# Altium schematic symbol library Passive.SchLib: 12 symbols (part 1 of 2)
Pins are listed as number, name and electrical type; pins without a type are passive.

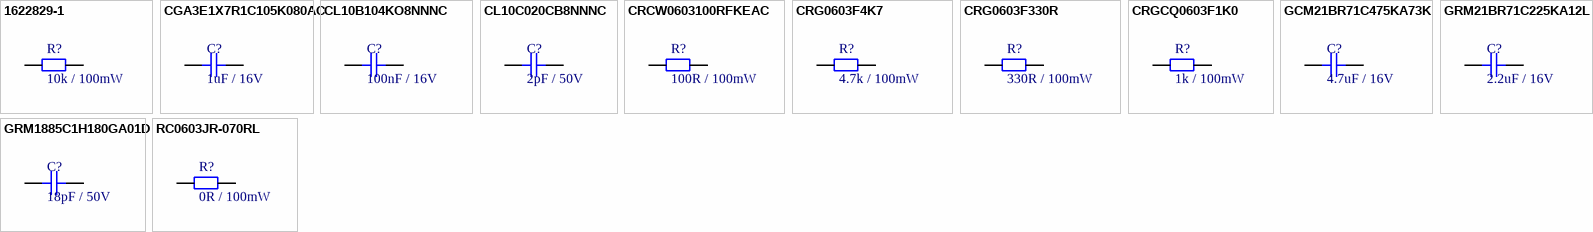
[diagram p0: symbols 1622829-1 to RC0603JR-070RL]

## 1622829-1
designator R?, comment 10k / 100mW
Res Thick Film 0603 10K Ohm 1% 0.1W(1/10W) ±100ppm/C Pad SMD T/R; Manufacturer: TE Connectivity; Manufacturer Part Number: 1622829-1; Manufacturer Lifecycle Status: ACTIVE; Number of Resistors: 1; Operating Supply Voltage: 50V; Value: 10kΩ; Temperature Coefficient: 100ppm/°C; Voltage Rating (DC): 75V; Supplier: Mouser; Supplier Part Number: 279-1622829-1; RoHS: Compliant; Category: Chip SMD Resistors; Stock: 133113; Pricing: 1=0.1, 10=0.016, 50=0.016, 100=0.013, 1000=0.007, 10000=0.004 (USD); Case/Package: 0603; Case Code (Imperial): 0603; Case Code (Metric): 1608; China RoHS: Non-Compliant; Composition: Thick Film; Depth: 800µm; Export Control Classification Number (ECCN) Code: EAR99; ELV: Compliant; Height: 450µm; Harmonized Tariff Schedule (HTS) Code: 8533.21.00.30; Introduction Date: 2003-09-18; Lead Free: Lead Free; Length: 1.6mm; Lifecycle Status: Production; Max Operating Temperature: 125°C; Max Power Dissipation: 100mW; Military Standard: Not; Min Operating Temperature: -55°C; Mounting Technology: Surface Mount; Number of Terminals: 2; Number of Terminations: 2; Packaging: TapeandReel; Power Dissipation: 100mW; Power Rating: 100mW; Radiation Hardening: No; REACH SVHC: Yes; Schedule B: 8533100070, 8533100070|8533100070, 8533100070|8533100070|8533100070, 8533100070|8533100070|8533100070|8533100070; Termination: Solder; Tolerance: 1%; Voltage Rating: 50V; Weight: 2.012816mg; Width: 800µm; Working Voltage: 50V; ComponentLink1URL: https://datasheet.octopart.com:443/CRG0603F10K-TE-Connectivity-datasheet-167977698.pdf?src-supplier=IHS; ComponentLink1Description: https://datasheet.octopart.com:443/CRG0603F10K-TE-Connectivity-datasheet-167977698.pdf?src-supplier=IHS; ComponentLink2URL: https://datasheet.octopart.com:443/CRG0603F10K-TE-Connectivity-datasheet-182172479.pdf?src-supplier=IHS; ComponentLink2Description: https://datasheet.octopart.com:443/CRG0603F10K-TE-Connectivity-datasheet-182172479.pdf?src-supplier=IHS; ComponentLink3URL: https://datasheet.octopart.com:443/1622829-1-TE-Connectivity-datasheet-128558484.pdf?src-supplier=Master+Electronics; ComponentLink3Description: https://datasheet.octopart.com:443/1622829-1-TE-Connectivity-datasheet-128558484.pdf?src-supplier=Master+Electronics; ComponentLink4URL: https://datasheet.octopart.com:443/1622829-1-TE-Connectivity---AMP-datasheet-189108518.pdf?src-supplier=Master+Electronics; ComponentLink4Description: https://datasheet.octopart.com:443/1622829-1-TE-Connectivity---AMP-datasheet-189108518.pdf?src-supplier=Master+Electronics; ComponentLink5URL: https://datasheet.octopart.com:443/1622829-1-TE-Connectivity-datasheet-44624597.pdf?src-supplier=Electro+Sonic; ComponentLink5Description: https://datasheet.octopart.com:443/1622829-1-TE-Connectivity-datasheet-44624597.pdf?src-supplier=Electro+Sonic; ComponentLink6URL: https://datasheet.octopart.com:443/1622829-1-TE-Connectivity---AMP-datasheet-11120284.pdf?src-supplier=TE+Connectivity; ComponentLink6Description: https://datasheet.octopart.com:443/1622829-1-TE-Connectivity---AMP-datasheet-11120284.pdf?src-supplier=TE+Connectivity; ComponentLink7URL: https://datasheet.octopart.com:443/1622829-1-TE-Connectivity---AMP-datasheet-11120141.pdf?src-supplier=TE+Connectivity; ComponentLink7Description: https://datasheet.octopart.com:443/1622829-1-TE-Connectivity---AMP-datasheet-11120141.pdf?src-supplier=TE+Connectivity; ComponentLink8URL: https://datasheet.octopart.com:443/1622829-1-TE-Connectivity-datasheet-14513465.pdf?src-supplier=TE+Connectivity; ComponentLink8Description: https://datasheet.octopart.com:443/1622829-1-TE-Connectivity-datasheet-14513465.pdf?src-supplier=TE+Connectivity; ComponentLink9URL: https://datasheet.octopart.com:443/CRG0603F10K-TE-Connectivity---Neohm-datasheet-193183284.pdf?src-supplier=JRH+Electronics; ComponentLink9Description: https://datasheet.octopart.com:443/CRG0603F10K-TE-Connectivity---Neohm-datasheet-193183284.pdf?src-supplier=JRH+Electronics; ComponentLink10URL: https://datasheet.octopart.com:443/1622829-1-TE-Connectivity---AMP-datasheet-189108484.pdf?src-supplier=JRH+Electronics; ComponentLink10Description: https://datasheet.octopart.com:443/1622829-1-TE-Connectivity---AMP-datasheet-189108484.pdf?src-supplier=JRH+Electronics; ComponentLink11URL: https://datasheet.octopart.com:443/CRG0603F10K-TE-Connectivity-datasheet-111046813.pdf?src-supplier=RS+(Formerly+Allied+Electronics); ComponentLink11Description: https://datasheet.octopart.com:443/CRG0603F10K-TE-Connectivity-datasheet-111046813.pdf?src-supplier=RS+(Formerly+Allied+Electronics); ComponentLink12URL: https://datasheet.octopart.com:443/CRG0603F10K-TE-Connectivity-datasheet-20739855.pdf?src-supplier=RS+(Formerly+Allied+Electronics); ComponentLink12Description: https://datasheet.octopart.com:443/CRG0603F10K-TE-Connectivity-datasheet-20739855.pdf?src-supplier=RS+(Formerly+Allied+Electronics); ComponentLink13URL: https://datasheet.octopart.com:443/CRG0603F10K-Tyco-Electronics-datasheet-9696495.pdf?src-supplier=RS+(Formerly+Allied+Electronics); ComponentLink13Description: https://datasheet.octopart.com:443/CRG0603F10K-Tyco-Electronics-datasheet-9696495.pdf?src-supplier=RS+(Formerly+Allied+Electronics); ComponentLink14URL: http://sigma.octopart.com:80/14513464/rohs_certificate/Tyco-Electronics-CRG0603F10K.pdf?src-supplier=Compliance+Statements; ComponentLink14Description: http://sigma.octopart.com:80/14513464/rohs_certificate/Tyco-Electronics-CRG0603F10K.pdf?src-supplier=Compliance+Statements; ComponentLink15URL: http://sigma.octopart.com:80/38872672/materials_sheet/TE-Connectivity-CRG0603F10K.pdf?src-supplier=Compliance+Statements; ComponentLink15Description: http://sigma.octopart.com:80/38872672/materials_sheet/TE-Connectivity-CRG0603F10K.pdf?src-supplier=Compliance+Statements; ComponentLink16URL: http://sigma.octopart.com:80/78339091/materials_sheet/TE-Connectivity-CRG0603F10K.pdf?src-supplier=Compliance+Statements; ComponentLink16Description: http://sigma.octopart.com:80/78339091/materials_sheet/TE-Connectivity-CRG0603F10K.pdf?src-supplier=Compliance+Statements
footprint R0603M (Resistor, Chip; 1.60 mm L X 0.775 mm W X 0.55 mm H body)
pins: 1, 2

## CGA3E1X7R1C105K080AC
designator C?, comment 1uF / 16V
16V 1uF X7R 卤10% 0603 Multilayer Ceramic Capacitors MLCC - SMD/SMT ROHS; Manufacturer: TDK; Manufacturer Part Number: CGA3E1X7R1C105K080AC; Manufacturer Lifecycle Status: PRODUCTION; Value: 1µF; Tolerance: 10%; Supplier: Mouser; Supplier Part Number: 810-CGA3E1X7R1C105AC; RoHS: Compliant; Category: Ceramic Capacitors; Stock: 273190; Pricing: 1=0.11, 10=0.04, 50=0.04, 100=0.035, 1000=0.023, 10000=0.015 (USD); Case/Package: 0603; Case Code (Imperial): 0603; Case Code (Metric): 1608; China RoHS: Compliant; Country of Origin: Japan; Dielectric: X7R; Dielectric Material: Ceramic; Export Control Classification Number (ECCN) Code: EAR99; Height: 800µm; Harmonized Tariff Schedule (HTS) Code: 8532.24.00.20; Introduction Date: 2012-12-22; Lead Free: Lead Free; Length: 1.6mm; Lifecycle Status: Production; Material: Ceramic; Max Length: 1.7mm; Max Operating Temperature: 125°C; Max Width: 900µm; Min Length: 1.5mm; Min Operating Temperature: -55°C; Min Width: 700µm; Mounting Technology: Surface Mount; Number of Terminals: 2; Ratings: AEC-Q200; REACH SVHC: Yes; Schedule B: 8532240020, 8532240020|8532240020, 8532240020|8532240020|8532240020, 8532240020|8532240020|8532240020|8532240020; Termination: SMD/SMT; Thickness: 889µm; Voltage Rating: 16V; Voltage Rating (DC): 16V; Weight: 2.012816mg; Width: 800µm; ComponentLink1URL: https://datasheet.octopart.com:443/CGA3E1X7R1C105K080AC-TDK-datasheet-165583812.pdf?src-supplier=IHS; ComponentLink1Description: https://datasheet.octopart.com:443/CGA3E1X7R1C105K080AC-TDK-datasheet-165583812.pdf?src-supplier=IHS; ComponentLink2URL: https://datasheet.octopart.com:443/CGA3E1X7R1C105K080AC-TDK-datasheet-138890726.pdf?src-supplier=Upverter; ComponentLink2Description: https://datasheet.octopart.com:443/CGA3E1X7R1C105K080AC-TDK-datasheet-138890726.pdf?src-supplier=Upverter; ComponentLink3URL: https://datasheet.octopart.com:443/CGA3E1X7R1C105K080AC-TDK-datasheet-151546526.pdf?src-supplier=ODG+(Origin+Data+Global); ComponentLink3Description: https://datasheet.octopart.com:443/CGA3E1X7R1C105K080AC-TDK-datasheet-151546526.pdf?src-supplier=ODG+(Origin+Data+Global); ComponentLink4URL: https://datasheet.octopart.com:443/CGA3E1X7R1C105K080AC-TDK-datasheet-43366117.pdf?src-supplier=Newark; ComponentLink4Description: https://datasheet.octopart.com:443/CGA3E1X7R1C105K080AC-TDK-datasheet-43366117.pdf?src-supplier=Newark; ComponentLink5URL: https://datasheet.octopart.com:443/CGA3E1X7R1C105K080AC-TDK-datasheet-82475251.pdf?src-supplier=Newark; ComponentLink5Description: https://datasheet.octopart.com:443/CGA3E1X7R1C105K080AC-TDK-datasheet-82475251.pdf?src-supplier=Newark; ComponentLink6URL: https://datasheet.octopart.com:443/CGA3E1X7R1C105K080AC-TDK-datasheet-164882302.pdf?src-supplier=Burklin+Elektronik; ComponentLink6Description: https://datasheet.octopart.com:443/CGA3E1X7R1C105K080AC-TDK-datasheet-164882302.pdf?src-supplier=Burklin+Elektronik; ComponentLink7URL: https://datasheet.octopart.com:443/CGA3E1X7R1C105K080AC-TDK-datasheet-140571036.pdf?src-supplier=Arrow.cn; ComponentLink7Description: https://datasheet.octopart.com:443/CGA3E1X7R1C105K080AC-TDK-datasheet-140571036.pdf?src-supplier=Arrow.cn
footprint C0603M (Capacitor, Chip; 1.60 mm L X 0.80 mm W X 0.90 mm H body)
pins: 1, 2

## CL10B104KO8NNNC
designator C?, comment 100nF / 16V
16V 100nF X7R ±10% 0603 Multilayer Ceramic Capacitors MLCC - SMD/SMT ROHS; Manufacturer: Samsung Electro-Mechanics; Manufacturer Part Number: CL10B104KO8NNNC; Supplier: LCSC; Supplier Part Number: C66501; RoHS: Compliant; Category: Ceramic Capacitors; Stock: 206300; Pricing: 100=0.0043, 1000=0.0034, 4000=0.0027, 8000=0.0024, 48000=0.0022 (USD); Value: 100nF; Case/Package: 0603; Case Code (Imperial): 0603; Case Code (Metric): 1608; China RoHS: Compliant; Contact Plating: Tin; Country of Origin: Mainland China, Philippines, South Korea; Depth: 800µm; Dielectric: X7R; Dielectric Material: Ceramic; Export Control Classification Number (ECCN) Code: EAR99; Height: 800µm; Harmonized Tariff Schedule (HTS) Code: 8532.24.00.20; Introduction Date: 2003-12-08; Lead Free: Lead Free; Length: 1.6mm; Lifecycle Status: Production; Material: Ceramic; Max Operating Temperature: 125°C; Min Operating Temperature: -55°C; Mounting Technology: Surface Mount; Number of Terminals: 2; Radiation Hardening: No; REACH SVHC: Yes; Schedule B: 8532240020, 8532240020|8532240020, 8532240020|8532240020|8532240020, 8532240020|8532240020|8532240020|8532240020; Thickness: 889µm; Tolerance: 10%; Voltage: 16V; Voltage Rating: 16V; Voltage Rating (DC): 16V; Width: 800µm; ComponentLink1URL: https://datasheet.octopart.com:443/CL10B104KO8NNNC-Samsung-Electro-Mechanics-datasheet-136482305.pdf?src-supplier=IHS; ComponentLink1Description: https://datasheet.octopart.com:443/CL10B104KO8NNNC-Samsung-Electro-Mechanics-datasheet-136482305.pdf?src-supplier=IHS; ComponentLink2URL: https://datasheet.octopart.com/CL10B104KO8NNNC-Samsung-Electro-Mechanics-datasheet-8324245.pdf; ComponentLink2Description: https://datasheet.octopart.com/CL10B104KO8NNNC-Samsung-Electro-Mechanics-datasheet-8324245.pdf; ComponentLink3URL: https://datasheet.octopart.com/CL10B104KO8NNNC-Samsung-Electro-Mechanics-datasheet-97040617.pdf; ComponentLink3Description: https://datasheet.octopart.com/CL10B104KO8NNNC-Samsung-Electro-Mechanics-datasheet-97040617.pdf; ComponentLink4URL: https://datasheet.octopart.com:443/CL10B104KO8NNNC-Samsung-Electro-Mechanics-datasheet-116890973.pdf?src-supplier=Future+Electronics; ComponentLink4Description: https://datasheet.octopart.com:443/CL10B104KO8NNNC-Samsung-Electro-Mechanics-datasheet-116890973.pdf?src-supplier=Future+Electronics; ComponentLink5URL: https://datasheet.octopart.com:443/CL10B104KO8NNNC-Samsung-Electro-Mechanics-datasheet-81461844.pdf?src-supplier=Future+Electronics; ComponentLink5Description: https://datasheet.octopart.com:443/CL10B104KO8NNNC-Samsung-Electro-Mechanics-datasheet-81461844.pdf?src-supplier=Future+Electronics; ComponentLink6URL: https://datasheet.octopart.com:443/CL10B104KO8NNNC-Samsung-datasheet-42770384.pdf?src-supplier=Future+Electronics; ComponentLink6Description: https://datasheet.octopart.com:443/CL10B104KO8NNNC-Samsung-datasheet-42770384.pdf?src-supplier=Future+Electronics; ComponentLink7URL: https://datasheet.octopart.com:443/CL10B104KO8NNNC-Samsung-datasheet-26589157.pdf?src-supplier=Future+Electronics; ComponentLink7Description: https://datasheet.octopart.com:443/CL10B104KO8NNNC-Samsung-datasheet-26589157.pdf?src-supplier=Future+Electronics; ComponentLink8URL: https://datasheet.octopart.com:443/CL10B104KO8NNNC-Samsung-Electro-Mechanics-datasheet-149136789.pdf?src-supplier=Future+Electronics; ComponentLink8Description: https://datasheet.octopart.com:443/CL10B104KO8NNNC-Samsung-Electro-Mechanics-datasheet-149136789.pdf?src-supplier=Future+Electronics; ComponentLink9URL: https://datasheet.octopart.com:443/CL10B104KO8NNNC-Samsung-datasheet-8326407.pdf?src-supplier=TME; ComponentLink9Description: https://datasheet.octopart.com:443/CL10B104KO8NNNC-Samsung-datasheet-8326407.pdf?src-supplier=TME; ComponentLink10URL: https://datasheet.octopart.com:443/CL10B104KO8NNNC-Samsung-Electro-Mechanics-datasheet-11890603.pdf?src-supplier=Arrow+Electronics; ComponentLink10Description: https://datasheet.octopart.com:443/CL10B104KO8NNNC-Samsung-Electro-Mechanics-datasheet-11890603.pdf?src-supplier=Arrow+Electronics
footprint C0603M (Capacitor, Chip; 1.60 mm L X 0.80 mm W X 0.90 mm H body)
pins: 1, 2

## CL10C020CB8NNNC
designator C?, comment 2pF / 50V
Cap Ceramic 2pF 50V C0G 0.25pF Pad SMD 0603 125C T/R; Manufacturer: Samsung Electro-Mechanics; Manufacturer Part Number: CL10C020CB8NNNC; Temperature Coefficient: 30ppm/°C; Supplier: Mouser; Supplier Part Number: 187-CL10C020CB8NNNC; RoHS: Compliant; Category: Ceramic Capacitors; Stock: 74711; Pricing: 1=0.1, 10=0.024, 50=0.024, 100=0.021, 1000=0.013, 10000=0.008 (USD); Value: 2pF; Case/Package: 0603; Case Code (Imperial): 0603; Case Code (Metric): 1608; China RoHS: Compliant; Country of Origin: Mainland China, Philippines, South Korea; Depth: 800µm; Dielectric: C0G; Dielectric Material: Ceramic; Export Control Classification Number (ECCN) Code: EAR99; Height: 900µm; Harmonized Tariff Schedule (HTS) Code: 8532.24.00.20; Introduction Date: 2010-07-30; Length: 1.6mm; Lifecycle Status: Production; Material: Ceramic; Max Operating Temperature: 125°C; Min Operating Temperature: -55°C; Mounting Technology: Surface Mount; Number of Terminals: 2; Radiation Hardening: No; REACH SVHC: Yes; Schedule B: 8532240020, 8532240020|8532240020|8532240020|8532240020|8532240020; Thickness: 889µm; Voltage Rating: 50V; Voltage Rating (DC): 50V; Width: 800µm; ComponentLink1URL: https://datasheet.octopart.com:443/CL10C020CB8NNNC-Samsung-Electro-Mechanics-datasheet-136482375.pdf?src-supplier=IHS; ComponentLink1Description: https://datasheet.octopart.com:443/CL10C020CB8NNNC-Samsung-Electro-Mechanics-datasheet-136482375.pdf?src-supplier=IHS; ComponentLink2URL: https://datasheet.octopart.com:443/CL10C020CB8NNNC-Samsung-Electro-Mechanics-datasheet-149136886.pdf?src-supplier=Future+Electronics; ComponentLink2Description: https://datasheet.octopart.com:443/CL10C020CB8NNNC-Samsung-Electro-Mechanics-datasheet-149136886.pdf?src-supplier=Future+Electronics; ComponentLink3URL: https://datasheet.octopart.com:443/CL10C020CB8NNNC-Samsung-Electro-Mechanics-datasheet-110226315.pdf?src-supplier=Future+Electronics; ComponentLink3Description: https://datasheet.octopart.com:443/CL10C020CB8NNNC-Samsung-Electro-Mechanics-datasheet-110226315.pdf?src-supplier=Future+Electronics; ComponentLink4URL: https://datasheet.octopart.com:443/CL10C020CB8NNNC-Samsung-Electro-Mechanics-datasheet-81461944.pdf?src-supplier=Future+Electronics; ComponentLink4Description: https://datasheet.octopart.com:443/CL10C020CB8NNNC-Samsung-Electro-Mechanics-datasheet-81461944.pdf?src-supplier=Future+Electronics; ComponentLink5URL: https://datasheet.octopart.com:443/CL10C020CB8NNNC-Samsung-datasheet-42770461.pdf?src-supplier=Future+Electronics; ComponentLink5Description: https://datasheet.octopart.com:443/CL10C020CB8NNNC-Samsung-datasheet-42770461.pdf?src-supplier=Future+Electronics; ComponentLink6URL: https://datasheet.octopart.com:443/CL10C020CB8NNNC-Samsung-datasheet-12557111.pdf?src-supplier=Future+Electronics; ComponentLink6Description: https://datasheet.octopart.com:443/CL10C020CB8NNNC-Samsung-datasheet-12557111.pdf?src-supplier=Future+Electronics; ComponentLink7URL: https://datasheet.octopart.com:443/CL10C020CB8NNNC-Samsung-datasheet-26669088.pdf?src-supplier=Future+Electronics; ComponentLink7Description: https://datasheet.octopart.com:443/CL10C020CB8NNNC-Samsung-datasheet-26669088.pdf?src-supplier=Future+Electronics; ComponentLink8URL: https://datasheet.octopart.com/CL10C020CB8NNNC-Samsung-Electro-Mechanics-datasheet-97040617.pdf; ComponentLink8Description: https://datasheet.octopart.com/CL10C020CB8NNNC-Samsung-Electro-Mechanics-datasheet-97040617.pdf; ComponentLink9URL: https://datasheet.octopart.com/CL10C020CB8NNNC-Samsung-Electro-Mechanics-datasheet-8324245.pdf; ComponentLink9Description: https://datasheet.octopart.com/CL10C020CB8NNNC-Samsung-Electro-Mechanics-datasheet-8324245.pdf; ComponentLink10URL: https://datasheet.octopart.com/General-Multilayer-Ceramic-Capacitors-Samsung-datasheet-family-111.pdf; ComponentLink10Description: https://datasheet.octopart.com/General-Multilayer-Ceramic-Capacitors-Samsung-datasheet-family-111.pdf; ComponentLink11URL: http://sigma.octopart.com:80/rohs_certificate/General-Multilayer-Ceramic-Capacitors-Samsung-family-110.pdf?src-supplier=Compliance+Statements; ComponentLink11Description: http://sigma.octopart.com:80/rohs_certificate/General-Multilayer-Ceramic-Capacitors-Samsung-family-110.pdf?src-supplier=Compliance+Statements; ComponentLink12URL: http://sigma.octopart.com:80/rohs_statement/General-Multilayer-Ceramic-Capacitors-Samsung-family-132.pdf?src-supplier=Compliance+Statements; ComponentLink12Description: http://sigma.octopart.com:80/rohs_statement/General-Multilayer-Ceramic-Capacitors-Samsung-family-132.pdf?src-supplier=Compliance+Statements; ComponentLink13URL: http://sigma.octopart.com:80/reach_statement/General-Multilayer-Ceramic-Capacitors-Samsung-family-133.pdf?src-supplier=Compliance+Statements; ComponentLink13Description: http://sigma.octopart.com:80/reach_statement/General-Multilayer-Ceramic-Capacitors-Samsung-family-133.pdf?src-supplier=Compliance+Statements
footprint C0603M (Capacitor, Chip; 1.60 mm L X 0.80 mm W X 0.90 mm H body)
pins: 1, 2

## CRCW0603100RFKEAC
designator R?, comment 100R / 100mW
100mW Thick Film Resistors 75V ±100ppm/℃ ±1% 100Ω 0603 Chip Resistor - Surface Mount ROHS; Manufacturer: Vishay; Manufacturer Part Number: CRCW0603100RFKEAC; Temperature Coefficient: 100ppm/°C; Supplier: LCSC; Supplier Part Number: C844724; RoHS: Compliant; Category: Chip SMD Resistors; Stock: 10700; Pricing: 100=0.007, 1000=0.0057, 5000=0.0044, 10000=0.004, 50000=0.0036, 100000=0.0034 (USD); Case/Package: 0603; China RoHS: Non-Compliant; Composition: Thick Film; Country of Origin: Mainland China; Export Control Classification Number (ECCN) Code: EAR99; Height: 450µm; Harmonized Tariff Schedule (HTS) Code: 8533.21.00.30; Introduction Date: 2013-06-05; Lead Free: Lead Free; Length: 1.6mm; Lifecycle Status: Production; Max Operating Temperature: 155°C; Min Operating Temperature: -55°C; Mounting Technology: Surface Mount; Number of Terminals: 2; Power Dissipation: 100mW; Power Rating: 100mW; REACH SVHC: Yes; Value: 100Ω; Schedule B: 8533210045, 8533210045|8533210045|8533210045|8533210045|8533210045; Tolerance: 1%; Voltage Rating: 75V; Width: 800µm; Working Voltage: 75V; ComponentLink1URL: https://datasheet.octopart.com:443/CRCW0603100RFKEAC-Vishay-datasheet-102570912.pdf?src-supplier=Upverter; ComponentLink1Description: https://datasheet.octopart.com:443/CRCW0603100RFKEAC-Vishay-datasheet-102570912.pdf?src-supplier=Upverter; ComponentLink2URL: https://datasheet.octopart.com:443/CRCW0603100RFKEAC-Vishay-datasheet-175423585.pdf?src-supplier=IHS; ComponentLink2Description: https://datasheet.octopart.com:443/CRCW0603100RFKEAC-Vishay-datasheet-175423585.pdf?src-supplier=IHS; ComponentLink3URL: https://datasheet.octopart.com:443/CRCW0603100RFKEAC-Vishay-datasheet-192322389.pdf?src-supplier=HQonline; ComponentLink3Description: https://datasheet.octopart.com:443/CRCW0603100RFKEAC-Vishay-datasheet-192322389.pdf?src-supplier=HQonline; ComponentLink4URL: https://datasheet.octopart.com:443/CRCW0603100RFKEAC-Vishay-datasheet-100063072.pdf?src-supplier=Future+Electronics; ComponentLink4Description: https://datasheet.octopart.com:443/CRCW0603100RFKEAC-Vishay-datasheet-100063072.pdf?src-supplier=Future+Electronics; ComponentLink5URL: https://datasheet.octopart.com:443/CRCW0603100RFKEAC-Vishay-datasheet-62316122.pdf?src-supplier=Future+Electronics; ComponentLink5Description: https://datasheet.octopart.com:443/CRCW0603100RFKEAC-Vishay-datasheet-62316122.pdf?src-supplier=Future+Electronics; ComponentLink6URL: http://sigma.octopart.com:80/rohs_statement/Vishay-company-15.pdf?src-supplier=Compliance+Statements; ComponentLink6Description: http://sigma.octopart.com:80/rohs_statement/Vishay-company-15.pdf?src-supplier=Compliance+Statements
footprint R0603M (Resistor, Chip; 1.60 mm L X 0.775 mm W X 0.55 mm H body)
pins: 1, 2

## CRG0603F4K7
designator R?, comment 4.7k / 100mW
Resistor, thick film, SMD 0603 (1608), 4.7 kΩ, 0.1 W, ±1 %, 1622960-1; Manufacturer: TE Connectivity; Manufacturer Part Number: CRG0603F4K7; Manufacturer Lifecycle Status: ACTIVE; Number of Resistors: 1; Operating Supply Voltage: 50V; Value: 4.7kΩ; Temperature Coefficient: 100ppm/°C; Tolerance: 1%; Voltage Rating: 75V; Supplier: Mouser; Supplier Part Number: 279-CRG0603F4K7; RoHS: Compliant; Category: Chip SMD Resistors; Stock: 133226; Pricing: 1=0.1, 10=0.016, 50=0.016, 100=0.013, 1000=0.007, 10000=0.003 (USD); Case/Package: 0603; Case Code (Imperial): 0603; Case Code (Metric): 1608; China RoHS: Non-Compliant; Composition: Thick Film; Country of Origin: Japan, Thailand, UK; Depth: 800µm; Export Control Classification Number (ECCN) Code: EAR99; ELV: Compliant; Height: 450µm; Harmonized Tariff Schedule (HTS) Code: 8533.21.00.30; Introduction Date: 2003-09-18; Length: 1.6mm; Lifecycle Status: Production; Max Operating Temperature: 125°C; Max Power Dissipation: 100mW; Military Standard: Not; Min Operating Temperature: -55°C; Mounting Technology: Surface Mount; Number of Terminals: 2; Number of Terminations: 2; Packaging: Tape & Reel (TR); Power Dissipation: 100mW; Power Rating: 100mW; Radiation Hardening: No; REACH SVHC: Yes; Schedule B: 8533100070, 8533100070|8533100070, 8533100070|8533100070|8533100070, 8533100070|8533100070|8533100070|8533100070; Termination: Solder; Weight: 2.012816mg; Width: 800µm; Working Voltage: 50V; ComponentLink1URL: https://datasheet.octopart.com:443/CRG0603F4K7-TE-Connectivity-datasheet-128558484.pdf?src-supplier=JRH+Electronics; ComponentLink1Description: https://datasheet.octopart.com:443/CRG0603F4K7-TE-Connectivity-datasheet-128558484.pdf?src-supplier=JRH+Electronics; ComponentLink2URL: https://datasheet.octopart.com:443/CRG0603F4K7-TE-Connectivity-datasheet-179134909.pdf?src-supplier=Newark; ComponentLink2Description: https://datasheet.octopart.com:443/CRG0603F4K7-TE-Connectivity-datasheet-179134909.pdf?src-supplier=Newark; ComponentLink3URL: https://datasheet.octopart.com:443/CRG0603F4K7-Tyco-Electronics-datasheet-11120284.pdf?src-supplier=element14+APAC; ComponentLink3Description: https://datasheet.octopart.com:443/CRG0603F4K7-Tyco-Electronics-datasheet-11120284.pdf?src-supplier=element14+APAC; ComponentLink4URL: https://datasheet.octopart.com:443/CRG0603F4K7-TE-Connectivity-datasheet-182172479.pdf?src-supplier=IHS; ComponentLink4Description: https://datasheet.octopart.com:443/CRG0603F4K7-TE-Connectivity-datasheet-182172479.pdf?src-supplier=IHS; ComponentLink5URL: https://datasheet.octopart.com:443/CRG0603F4K7-Tyco-Electronics-datasheet-11120141.pdf?src-supplier=Master+Electronics; ComponentLink5Description: https://datasheet.octopart.com:443/CRG0603F4K7-Tyco-Electronics-datasheet-11120141.pdf?src-supplier=Master+Electronics; ComponentLink6URL: https://datasheet.octopart.com:443/CRG0603F4K7-TE-Connectivity-datasheet-44624597.pdf?src-supplier=Master+Electronics; ComponentLink6Description: https://datasheet.octopart.com:443/CRG0603F4K7-TE-Connectivity-datasheet-44624597.pdf?src-supplier=Master+Electronics; ComponentLink7URL: https://sigma.octopart.com:443/14510844/technical_drawing/Tyco-Electronics-CRG0603F4K7.pdf?src-supplier=Sager+Electronics; ComponentLink7Description: https://sigma.octopart.com:443/14510844/technical_drawing/Tyco-Electronics-CRG0603F4K7.pdf?src-supplier=Sager+Electronics; ComponentLink8URL: https://datasheet.octopart.com:443/1622960-1-TE-Connectivity---AMP-datasheet-189108518.pdf?src-supplier=Electro+Sonic; ComponentLink8Description: https://datasheet.octopart.com:443/1622960-1-TE-Connectivity---AMP-datasheet-189108518.pdf?src-supplier=Electro+Sonic; ComponentLink9URL: https://datasheet.octopart.com:443/CRG0603F4K7-TE-Connectivity-datasheet-137111032.pdf?src-supplier=X-ON; ComponentLink9Description: https://datasheet.octopart.com:443/CRG0603F4K7-TE-Connectivity-datasheet-137111032.pdf?src-supplier=X-ON; ComponentLink10URL: https://datasheet.octopart.com:443/CRG0603F4K7-TE-Connectivity-datasheet-111046813.pdf?src-supplier=RS+(Formerly+Allied+Electronics); ComponentLink10Description: https://datasheet.octopart.com:443/CRG0603F4K7-TE-Connectivity-datasheet-111046813.pdf?src-supplier=RS+(Formerly+Allied+Electronics); ComponentLink11URL: https://datasheet.octopart.com:443/CRG0603F4K7-TE-Connectivity-datasheet-20739855.pdf?src-supplier=RS+(Formerly+Allied+Electronics); ComponentLink11Description: https://datasheet.octopart.com:443/CRG0603F4K7-TE-Connectivity-datasheet-20739855.pdf?src-supplier=RS+(Formerly+Allied+Electronics); ComponentLink12URL: https://datasheet.octopart.com:443/CRG0603F4K7-Tyco-Electronics-datasheet-9788399.pdf?src-supplier=RS+(Formerly+Allied+Electronics); ComponentLink12Description: https://datasheet.octopart.com:443/CRG0603F4K7-Tyco-Electronics-datasheet-9788399.pdf?src-supplier=RS+(Formerly+Allied+Electronics); ComponentLink13URL: https://datasheet.octopart.com:443/CRG0603F4K7-Tyco-Electronics-datasheet-10388921.pdf?src-supplier=Arrow+Electronics; ComponentLink13Description: https://datasheet.octopart.com:443/CRG0603F4K7-Tyco-Electronics-datasheet-10388921.pdf?src-supplier=Arrow+Electronics; ComponentLink14URL: http://sigma.octopart.com:80/14510843/rohs_certificate/Tyco-Electronics-CRG0603F4K7.pdf?src-supplier=Compliance+Statements; ComponentLink14Description: http://sigma.octopart.com:80/14510843/rohs_certificate/Tyco-Electronics-CRG0603F4K7.pdf?src-supplier=Compliance+Statements; ComponentLink15URL: http://sigma.octopart.com:80/38872733/materials_sheet/TE-Connectivity-CRG0603F4K7.pdf?src-supplier=Compliance+Statements; ComponentLink15Description: http://sigma.octopart.com:80/38872733/materials_sheet/TE-Connectivity-CRG0603F4K7.pdf?src-supplier=Compliance+Statements; ComponentLink16URL: http://sigma.octopart.com:80/78339129/materials_sheet/TE-Connectivity-CRG0603F4K7.pdf?src-supplier=Compliance+Statements; ComponentLink16Description: http://sigma.octopart.com:80/78339129/materials_sheet/TE-Connectivity-CRG0603F4K7.pdf?src-supplier=Compliance+Statements
footprint R0603M (Resistor, Chip; 1.60 mm L X 0.775 mm W X 0.55 mm H body)
pins: 1, 2

## CRG0603F330R
designator R?, comment 330R / 100mW
Res Thick Film 0603 330 Ohm 1% 0.1W(1/10W) ±100ppm/C Pad SMD T/R; Manufacturer: TE Connectivity; Manufacturer Part Number: CRG0603F330R; Manufacturer Lifecycle Status: ACTIVE; Number of Resistors: 1; Operating Supply Voltage: 50V; Value: 330Ω; Temperature Coefficient: 100ppm/°C; Supplier: LCSC; Supplier Part Number: C3955875; RoHS: Compliant; Category: Chip SMD Resistors; Stock: 50; Pricing: 50=0.0107, 500=0.0086, 1500=0.0074, 5000=0.0068, 25000=0.0062, 50000=0.0058 (USD); Case/Package: 0603; Case Code (Imperial): 0603; Case Code (Metric): 1608; China RoHS: Non-Compliant; Composition: Thick Film; Depth: 800µm; Export Control Classification Number (ECCN) Code: EAR99; ELV: Compliant; Height: 450µm; Harmonized Tariff Schedule (HTS) Code: 8533.21.00.30; Introduction Date: 2003-09-18; Length: 1.6mm; Lifecycle Status: Production; Max Operating Temperature: 125°C; Min Operating Temperature: -55°C; Mounting Technology: Surface Mount; Number of Terminals: 2; Number of Terminations: 2; Packaging: Tape & Reel (TR); Power Dissipation: 100mW; Power Rating: 100mW; Radiation Hardening: No; REACH SVHC: Yes; Schedule B: 8533210045, 8533210090, 8533210090|8533210090, 8533210090|8533210090|8533210090; Termination: Solder; Tolerance: 1%; Voltage Rating: 50V; Width: 800µm; Working Voltage: 50V; ComponentLink1URL: https://datasheet.octopart.com:443/CRG0603F330R-TE-Connectivity-datasheet-177732131.pdf?src-supplier=JRH+Electronics; ComponentLink1Description: https://datasheet.octopart.com:443/CRG0603F330R-TE-Connectivity-datasheet-177732131.pdf?src-supplier=JRH+Electronics; ComponentLink2URL: https://datasheet.octopart.com:443/CRG0603F330R-TE-Connectivity-datasheet-128558484.pdf?src-supplier=JRH+Electronics; ComponentLink2Description: https://datasheet.octopart.com:443/CRG0603F330R-TE-Connectivity-datasheet-128558484.pdf?src-supplier=JRH+Electronics; ComponentLink3URL: https://datasheet.octopart.com:443/CRG0603F330R-TE-Connectivity---Neohm-datasheet-193183337.pdf?src-supplier=JRH+Electronics; ComponentLink3Description: https://datasheet.octopart.com:443/CRG0603F330R-TE-Connectivity---Neohm-datasheet-193183337.pdf?src-supplier=JRH+Electronics; ComponentLink4URL: https://datasheet.octopart.com:443/1622918-1-TE-Connectivity---AMP-datasheet-189108484.pdf?src-supplier=JRH+Electronics; ComponentLink4Description: https://datasheet.octopart.com:443/1622918-1-TE-Connectivity---AMP-datasheet-189108484.pdf?src-supplier=JRH+Electronics; ComponentLink5URL: https://datasheet.octopart.com:443/CRG0603F330R-TE-Connectivity-datasheet-167977698.pdf?src-supplier=IHS; ComponentLink5Description: https://datasheet.octopart.com:443/CRG0603F330R-TE-Connectivity-datasheet-167977698.pdf?src-supplier=IHS; ComponentLink6URL: https://datasheet.octopart.com:443/CRG0603F330R-TE-Connectivity-datasheet-182172479.pdf?src-supplier=IHS; ComponentLink6Description: https://datasheet.octopart.com:443/CRG0603F330R-TE-Connectivity-datasheet-182172479.pdf?src-supplier=IHS; ComponentLink7URL: https://datasheet.octopart.com:443/CRG0603F330R-Tyco-Electronics-datasheet-11120284.pdf?src-supplier=Farnell; ComponentLink7Description: https://datasheet.octopart.com:443/CRG0603F330R-Tyco-Electronics-datasheet-11120284.pdf?src-supplier=Farnell; ComponentLink8URL: https://datasheet.octopart.com:443/CRG0603F330R-Tyco-Electronics-datasheet-11120141.pdf?src-supplier=Master+Electronics; ComponentLink8Description: https://datasheet.octopart.com:443/CRG0603F330R-Tyco-Electronics-datasheet-11120141.pdf?src-supplier=Master+Electronics; ComponentLink9URL: https://datasheet.octopart.com:443/CRG0603F330R-TE-Connectivity-datasheet-44624597.pdf?src-supplier=Master+Electronics; ComponentLink9Description: https://datasheet.octopart.com:443/CRG0603F330R-TE-Connectivity-datasheet-44624597.pdf?src-supplier=Master+Electronics; ComponentLink10URL: https://datasheet.octopart.com:443/1622918-1-TE-Connectivity---AMP-datasheet-189108518.pdf?src-supplier=Master+Electronics; ComponentLink10Description: https://datasheet.octopart.com:443/1622918-1-TE-Connectivity---AMP-datasheet-189108518.pdf?src-supplier=Master+Electronics; ComponentLink11URL: https://sigma.octopart.com:443/14513272/technical_drawing/Tyco-Electronics-CRG0603F330R.pdf?src-supplier=Sager+Electronics; ComponentLink11Description: https://sigma.octopart.com:443/14513272/technical_drawing/Tyco-Electronics-CRG0603F330R.pdf?src-supplier=Sager+Electronics; ComponentLink12URL: https://datasheet.octopart.com:443/1622918-1-TE-Connectivity-datasheet-177731251.pdf?src-supplier=Burklin+Elektronik; ComponentLink12Description: https://datasheet.octopart.com:443/1622918-1-TE-Connectivity-datasheet-177731251.pdf?src-supplier=Burklin+Elektronik; ComponentLink13URL: https://datasheet.octopart.com:443/CRG0603F330R-TE-Connectivity-datasheet-111046813.pdf?src-supplier=RS+(Formerly+Allied+Electronics); ComponentLink13Description: https://datasheet.octopart.com:443/CRG0603F330R-TE-Connectivity-datasheet-111046813.pdf?src-supplier=RS+(Formerly+Allied+Electronics); ComponentLink14URL: https://datasheet.octopart.com:443/CRG0603F330R-TE-Connectivity-datasheet-20739855.pdf?src-supplier=RS+(Formerly+Allied+Electronics); ComponentLink14Description: https://datasheet.octopart.com:443/CRG0603F330R-TE-Connectivity-datasheet-20739855.pdf?src-supplier=RS+(Formerly+Allied+Electronics); ComponentLink15URL: https://datasheet.octopart.com:443/CRG0603F330R-Tyco-Electronics-datasheet-9643492.pdf?src-supplier=RS+(Formerly+Allied+Electronics); ComponentLink15Description: https://datasheet.octopart.com:443/CRG0603F330R-Tyco-Electronics-datasheet-9643492.pdf?src-supplier=RS+(Formerly+Allied+Electronics); ComponentLink16URL: http://sigma.octopart.com:80/14513267/rohs_certificate/Tyco-Electronics-CRG0603F330R.pdf?src-supplier=Compliance+Statements; ComponentLink16Description: http://sigma.octopart.com:80/14513267/rohs_certificate/Tyco-Electronics-CRG0603F330R.pdf?src-supplier=Compliance+Statements; ComponentLink17URL: http://sigma.octopart.com:80/38872715/materials_sheet/TE-Connectivity-CRG0603F330R.pdf?src-supplier=Compliance+Statements; ComponentLink17Description: http://sigma.octopart.com:80/38872715/materials_sheet/TE-Connectivity-CRG0603F330R.pdf?src-supplier=Compliance+Statements; ComponentLink18URL: http://sigma.octopart.com:80/78339115/materials_sheet/TE-Connectivity-CRG0603F330R.pdf?src-supplier=Compliance+Statements; ComponentLink18Description: http://sigma.octopart.com:80/78339115/materials_sheet/TE-Connectivity-CRG0603F330R.pdf?src-supplier=Compliance+Statements
footprint R0603M (Resistor, Chip; 1.60 mm L X 0.775 mm W X 0.55 mm H body)
pins: 1, 2

## CRGCQ0603F1K0
designator R?, comment 1k / 100mW
Res Thick Film 0603 1K Ohm 1% 0.1W(1/10W) ±100ppm/°C Pad SMD T/R Automotive AEC-Q200; Manufacturer: TE Connectivity; Manufacturer Part Number: CRGCQ0603F1K0; Manufacturer Lifecycle Status: ACTIVE; Operating Supply Voltage: 75V; Value: 1kΩ; Supplier: LCSC; Supplier Part Number: C2073683; RoHS: Compliant; Category: Chip SMD Resistors; Stock: 7800; Pricing: 50=0.0088, 500=0.0069, 1500=0.0059, 5000=0.0053, 25000=0.0047, 50000=0.0044 (USD); Ambient Temperature Range High: 70°C; Case/Package: 0603; China RoHS: Non-Compliant; Composition: Thick Film; Export Control Classification Number (ECCN) Code: EAR99; Height: 450µm; Harmonized Tariff Schedule (HTS) Code: 8533.21.00.30; Introduction Date: 2018-03-13; Length: 1.6mm; Lifecycle Status: Production; Max Operating Temperature: 155°C; Min Operating Temperature: -55°C; Mounting Technology: Surface Mount; Number of Terminals: 2; Packaging: Cut Tape; Power Dissipation: 100mW; Power Rating: 100mW; Ratings: AEC-Q200; REACH SVHC: Yes; Temperature Coefficient: 100ppm/°C; Tolerance: 1%; Voltage Rating: 75V; Voltage Rating (DC): 75V; Width: 800µm; Working Voltage: 75V; ComponentLink1URL: https://datasheet.octopart.com:443/CRGCQ0603F1K0-TE-Connectivity-datasheet-114679081.pdf?src-supplier=JRH+Electronics; ComponentLink1Description: https://datasheet.octopart.com:443/CRGCQ0603F1K0-TE-Connectivity-datasheet-114679081.pdf?src-supplier=JRH+Electronics; ComponentLink2URL: https://datasheet.octopart.com:443/CRGCQ0603F1K0-TE-Connectivity-datasheet-179161797.pdf?src-supplier=IHS; ComponentLink2Description: https://datasheet.octopart.com:443/CRGCQ0603F1K0-TE-Connectivity-datasheet-179161797.pdf?src-supplier=IHS; ComponentLink3URL: https://sigma.octopart.com:443/114683329/technical_drawing/TE-Connectivity-CRGCQ0603F1K0.pdf?src-supplier=Sager+Electronics; ComponentLink3Description: https://sigma.octopart.com:443/114683329/technical_drawing/TE-Connectivity-CRGCQ0603F1K0.pdf?src-supplier=Sager+Electronics; ComponentLink4URL: https://datasheet.octopart.com:443/2-2176339-5-TE-Connectivity---AMP-datasheet-189108688.pdf?src-supplier=Electro+Sonic; ComponentLink4Description: https://datasheet.octopart.com:443/2-2176339-5-TE-Connectivity---AMP-datasheet-189108688.pdf?src-supplier=Electro+Sonic
footprint R0603M (Resistor, Chip; 1.60 mm L X 0.775 mm W X 0.55 mm H body)
pins: 1, 2

## GCM21BR71C475KA73K
designator C?, comment 4.7uF / 16V
16V 4.7uF X7R ±10% 0805 Multilayer Ceramic Capacitors MLCC - SMD/SMT ROHS; Manufacturer: Murata; Manufacturer Part Number: GCM21BR71C475KA73K; Manufacturer Lifecycle Status: IN PRODUCTION; Manufacturer Package Identifier: 0805 (2012 metric); Value: 4.7µF; Supplier: LCSC; Supplier Part Number: C2167533; RoHS: Compliant; Category: Ceramic Capacitors; Stock: 20960; Pricing: 20=0.0423, 200=0.0337, 600=0.029, 2000=0.0261, 10000=0.0236, 20000=0.0223 (USD); Case/Package: 0805; Case Code (Imperial): 0805; Case Code (Metric): 2012; Country of Origin: Philippines; Dielectric: X7R; Dielectric Material: Ceramic; Export Control Classification Number (ECCN) Code: EAR99; Height: 1.25mm; Harmonized Tariff Schedule (HTS) Code: 8532.24.00.20; Introduction Date: 2010-10-29; Length: 2mm; Lifecycle Status: Production; Material: Ceramic; Max Operating Temperature: 125°C; Min Operating Temperature: -55°C; Mounting Technology: Surface Mount; Number of Terminals: 2; Packaging: Tape & Reel (TR); Ratings: AEC-Q200; REACH SVHC: Yes; Schedule B: 8532240020, 8532240020|8532240020, 8532240020|8532240020|8532240020, 8532240020|8532240020|8532240020|8532240020; Termination: SMD/SMT; Tolerance: 10%; Voltage Rating: 16V; Voltage Rating (DC): 16V; Weight: 9.49709mg; Width: 1.25mm; ComponentLink1URL: https://datasheet.octopart.com:443/GCM21BR71C475KA73K-Murata-datasheet-149522713.pdf?src-supplier=Newark; ComponentLink1Description: https://datasheet.octopart.com:443/GCM21BR71C475KA73K-Murata-datasheet-149522713.pdf?src-supplier=Newark; ComponentLink2URL: https://datasheet.octopart.com:443/GCM21BR71C475KA73K-Murata-datasheet-141268644.pdf?src-supplier=Geoflip; ComponentLink2Description: https://datasheet.octopart.com:443/GCM21BR71C475KA73K-Murata-datasheet-141268644.pdf?src-supplier=Geoflip; ComponentLink3URL: https://datasheet.octopart.com:443/GCM21BR71C475KA73K-Murata-datasheet-140660201.pdf?src-supplier=Ciiva; ComponentLink3Description: https://datasheet.octopart.com:443/GCM21BR71C475KA73K-Murata-datasheet-140660201.pdf?src-supplier=Ciiva; ComponentLink4URL: https://datasheet.octopart.com:443/GCM21BR71C475KA73K-Murata-datasheet-138719605.pdf?src-supplier=Ciiva; ComponentLink4Description: https://datasheet.octopart.com:443/GCM21BR71C475KA73K-Murata-datasheet-138719605.pdf?src-supplier=Ciiva; ComponentLink5URL: https://datasheet.octopart.com:443/GCM21BR71C475KA73K-Murata-datasheet-128592892.pdf?src-supplier=X-ON; ComponentLink5Description: https://datasheet.octopart.com:443/GCM21BR71C475KA73K-Murata-datasheet-128592892.pdf?src-supplier=X-ON; ComponentLink6URL: https://datasheet.octopart.com:443/GCM21BR71C475KA73K-Murata-datasheet-31964969.pdf?src-supplier=Future+Electronics; ComponentLink6Description: https://datasheet.octopart.com:443/GCM21BR71C475KA73K-Murata-datasheet-31964969.pdf?src-supplier=Future+Electronics; ComponentLink7URL: https://datasheet.octopart.com:443/GCM21BR71C475KA73K-Murata-datasheet-12511495.pdf?src-supplier=TME; ComponentLink7Description: https://datasheet.octopart.com:443/GCM21BR71C475KA73K-Murata-datasheet-12511495.pdf?src-supplier=TME; ComponentLink8URL: https://datasheet.octopart.com/GCM21BR71C475KA73K-Murata-datasheet-14404525.pdf; ComponentLink8Description: https://datasheet.octopart.com/GCM21BR71C475KA73K-Murata-datasheet-14404525.pdf; ComponentLink9URL: http://sigma.octopart.com:80/reach_statement/Murata-company-16.pdf?src-supplier=Compliance+Statements; ComponentLink9Description: http://sigma.octopart.com:80/reach_statement/Murata-company-16.pdf?src-supplier=Compliance+Statements
footprint C0805M (Capacitor, Chip; 2.00 mm L X 1.25 mm W X 1.35 mm H body)
pins: 1, 2

## GRM21BR71C225KA12L
designator C?, comment 2.2uF / 16V
16V 2.2uF X7R ±10% 0805 Multilayer Ceramic Capacitors MLCC - SMD/SMT ROHS; Manufacturer: Murata; Manufacturer Part Number: GRM21BR71C225KA12L; Manufacturer Lifecycle Status: NRND; Manufacturer Package Identifier: 0805 (2012 metric); Value: 2.2µF; Supplier: LCSC; Supplier Part Number: C108378; RoHS: Compliant; Category: Ceramic Capacitors; Stock: 2280; Pricing: 20=0.0329, 200=0.0269, 600=0.0236, 3000=0.0183, 9000=0.0166, 21000=0.0156 (USD); Case/Package: 0805; Case Code (Imperial): 0805; Case Code (Metric): 2012; Country of Origin: Philippines; Depth: 1.25mm; Dielectric: X7R; Dielectric Material: Ceramic; Export Control Classification Number (ECCN) Code: EAR99; Height: 1.25mm; Harmonized Tariff Schedule (HTS) Code: 8532.24.00.20; Introduction Date: 2007-02-23; Lead Free: Lead Free; Length: 2mm; Lifecycle Status: NRND; Material: Ceramic; Max Operating Temperature: 125°C; Min Operating Temperature: -55°C; Mounting Technology: Surface Mount; Pins: 2; Number of Terminals: 2; Packaging: Cut Tape; Radiation Hardening: No; REACH SVHC: Yes; Schedule B: 8532240020, 8532240020|8532240020, 8532240020|8532240020|8532240020, 8532240020|8532240020|8532240020|8532240020; Termination: SMD/SMT; Thickness: 1.25mm; Tolerance: 10%; Voltage: 16V; Voltage Rating: 16V; Voltage Rating (DC): 16V; Width: 1.25mm; ComponentLink1URL: https://datasheet.octopart.com:443/GRM21BR71C225KA12L-Murata-datasheet-8817987.pdf?src-supplier=element14+APAC; ComponentLink1Description: https://datasheet.octopart.com:443/GRM21BR71C225KA12L-Murata-datasheet-8817987.pdf?src-supplier=element14+APAC; ComponentLink2URL: https://datasheet.octopart.com:443/GRM21BR71C225KA12L-Murata-datasheet-62317294.pdf?src-supplier=element14+APAC; ComponentLink2Description: https://datasheet.octopart.com:443/GRM21BR71C225KA12L-Murata-datasheet-62317294.pdf?src-supplier=element14+APAC; ComponentLink3URL: https://datasheet.octopart.com:443/GRM21BR71C225KA12L-Murata-datasheet-141278393.pdf?src-supplier=Geoflip; ComponentLink3Description: https://datasheet.octopart.com:443/GRM21BR71C225KA12L-Murata-datasheet-141278393.pdf?src-supplier=Geoflip; ComponentLink4URL: https://datasheet.octopart.com:443/GRM21BR71C225KA12L-Murata-datasheet-8332428.pdf?src-supplier=_legacy+Avnet; ComponentLink4Description: https://datasheet.octopart.com:443/GRM21BR71C225KA12L-Murata-datasheet-8332428.pdf?src-supplier=_legacy+Avnet; ComponentLink5URL: https://datasheet.octopart.com:443/GRM21BR71C225KA12L-Murata-datasheet-140707634.pdf?src-supplier=Ciiva; ComponentLink5Description: https://datasheet.octopart.com:443/GRM21BR71C225KA12L-Murata-datasheet-140707634.pdf?src-supplier=Ciiva; ComponentLink6URL: https://datasheet.octopart.com:443/GRM21BR71C225KA12L-Murata-datasheet-138744934.pdf?src-supplier=Ciiva; ComponentLink6Description: https://datasheet.octopart.com:443/GRM21BR71C225KA12L-Murata-datasheet-138744934.pdf?src-supplier=Ciiva; ComponentLink7URL: https://datasheet.octopart.com:443/GRM21BR71C225KA12L-Murata-datasheet-81455649.pdf?src-supplier=TME; ComponentLink7Description: https://datasheet.octopart.com:443/GRM21BR71C225KA12L-Murata-datasheet-81455649.pdf?src-supplier=TME; ComponentLink8URL: https://datasheet.octopart.com:443/GRM21BR71C225KA12L-Murata-datasheet-192320398.pdf?src-supplier=HQonline; ComponentLink8Description: https://datasheet.octopart.com:443/GRM21BR71C225KA12L-Murata-datasheet-192320398.pdf?src-supplier=HQonline; ComponentLink9URL: https://datasheet.octopart.com:443/GRM21BR71C225KA12L-Murata-datasheet-22122223.pdf?src-supplier=Future+Electronics; ComponentLink9Description: https://datasheet.octopart.com:443/GRM21BR71C225KA12L-Murata-datasheet-22122223.pdf?src-supplier=Future+Electronics; ComponentLink10URL: https://datasheet.octopart.com:443/GRM21BR71C225KA12L-Murata-datasheet-14402386.pdf?src-supplier=Future+Electronics; ComponentLink10Description: https://datasheet.octopart.com:443/GRM21BR71C225KA12L-Murata-datasheet-14402386.pdf?src-supplier=Future+Electronics; ComponentLink11URL: https://datasheet.octopart.com:443/GRM21BR71C225KA12L-Murata-datasheet-44108787.pdf?src-supplier=Future+Electronics; ComponentLink11Description: https://datasheet.octopart.com:443/GRM21BR71C225KA12L-Murata-datasheet-44108787.pdf?src-supplier=Future+Electronics; ComponentLink12URL: https://datasheet.octopart.com/GRM21BR71C225KA12L-Murata-datasheet-12515295.pdf; ComponentLink12Description: https://datasheet.octopart.com/GRM21BR71C225KA12L-Murata-datasheet-12515295.pdf; ComponentLink13URL: https://datasheet.octopart.com/GRM21BR71C225KA12L-Murata-datasheet-12510076.pdf; ComponentLink13Description: https://datasheet.octopart.com/GRM21BR71C225KA12L-Murata-datasheet-12510076.pdf; ComponentLink14URL: https://datasheet.octopart.com/GRM21BR71C225KA12L-Murata-datasheet-11978611.pdf; ComponentLink14Description: https://datasheet.octopart.com/GRM21BR71C225KA12L-Murata-datasheet-11978611.pdf; ComponentLink15URL: https://datasheet.octopart.com/GRM21BR71C225KA12L-Murata-datasheet-10025737.pdf; ComponentLink15Description: https://datasheet.octopart.com/GRM21BR71C225KA12L-Murata-datasheet-10025737.pdf; ComponentLink16URL: https://datasheet.octopart.com/GRM21BR71C225KA12L-Murata-datasheet-8819587.pdf; ComponentLink16Description: https://datasheet.octopart.com/GRM21BR71C225KA12L-Murata-datasheet-8819587.pdf; ComponentLink17URL: https://datasheet.octopart.com/GRM21BR71C225KA12L-Murata-datasheet-14397536.pdf; ComponentLink17Description: https://datasheet.octopart.com/GRM21BR71C225KA12L-Murata-datasheet-14397536.pdf; ComponentLink18URL: https://datasheet.octopart.com:443/GRM21BR71C225KA12L-Murata-datasheet-11806354.pdf?src-supplier=Arrow+Electronics; ComponentLink18Description: https://datasheet.octopart.com:443/GRM21BR71C225KA12L-Murata-datasheet-11806354.pdf?src-supplier=Arrow+Electronics; ComponentLink19URL: https://datasheet.octopart.com:443/GRM21BR71C225KA12L-Murata-datasheet-4833.pdf?src-supplier=DigiKey; ComponentLink19Description: https://datasheet.octopart.com:443/GRM21BR71C225KA12L-Murata-datasheet-4833.pdf?src-supplier=DigiKey; ComponentLink20URL: http://sigma.octopart.com:80/reach_statement/Murata-company-16.pdf?src-supplier=Compliance+Statements; ComponentLink20Description: http://sigma.octopart.com:80/reach_statement/Murata-company-16.pdf?src-supplier=Compliance+Statements
footprint C0805M (Capacitor, Chip; 2.00 mm L X 1.25 mm W X 1.35 mm H body)
pins: 1, 2